# EAGLE library part FT-X3 (library bontor)
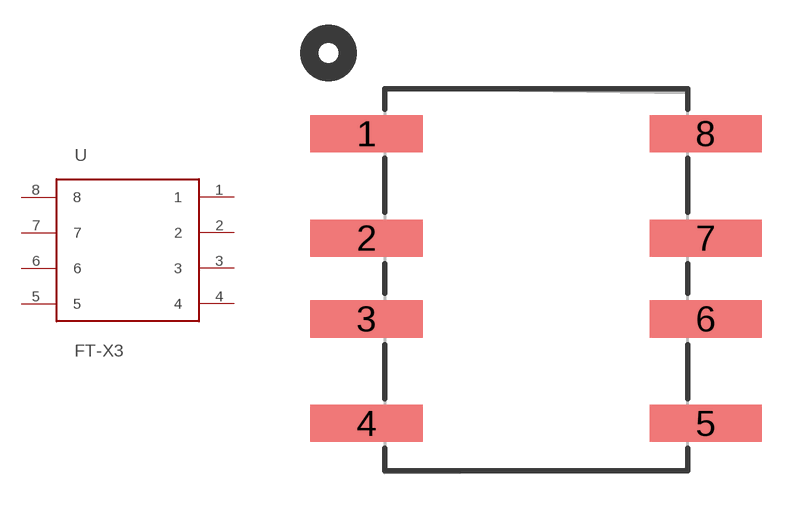
[diagram p4: symbol with the pads of FT-X3; footprint FT-X3]

Designator prefix -

## FT-X3  [FT-X3]
1  1
2  2
3  3
4  4
5  5
6  6
7  7
8  8

## Footprint FT-X3 (pad centres in mm)
smd 5 x 1.65: 1 -0.8,15; 2 -0.8,10.35; 3 -0.8,6.75; 4 -0.8,2.1; 5 14.3,2.1; 6 14.3,6.75; 7 14.3,10.35; 8 14.3,15